# Altium footprint library componenta.PcbLib: 3 footprints
Each footprint in its own frame and in the unit in brackets; x right, y up, seen from the top. Pads: shape width x height; smd on the part's side, far side on the other; paste and mask are expansions set on the pad; w line width, h text height; cw(c..) or ccw(c..) is an arc to the next point about the centre after c.
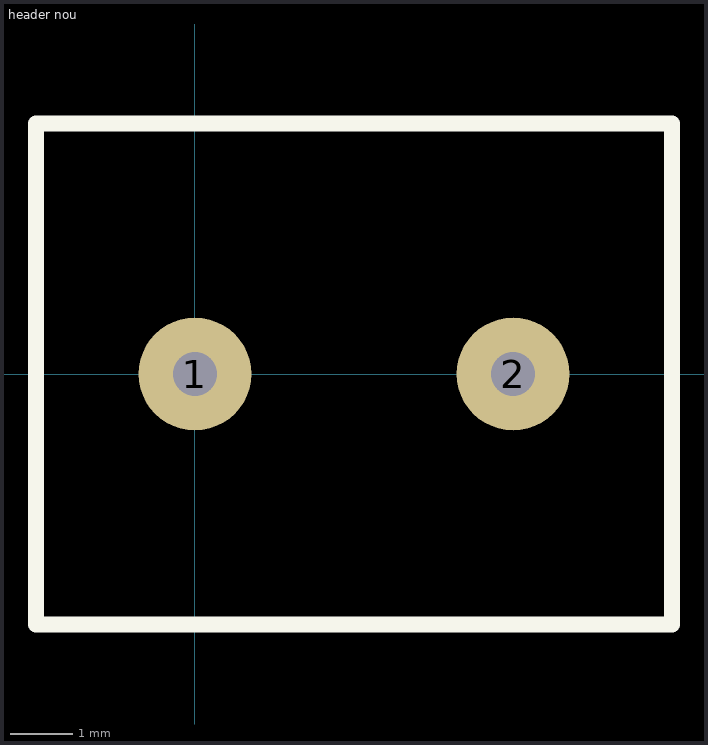
[diagram p0: the footprints below, top view; thin cyan lines are the x and y axes]

## 2N5458 [mm] "JFET"

## header nou [mm]
pads (2):
  round 1.8 hole 0.7: 1(0,0) 2(5.08,0)
Top Overlay:
  lines w0.254: -2.54,-4 -2.54,4 7.62,4 7.62,-4 -2.54,-4

## PCBComponent_1 [mm]